# Altium schematic symbol library ARTIK-10.SchLib: 1 symbol
Pins are listed as number, name and electrical type; pins without a type are passive.

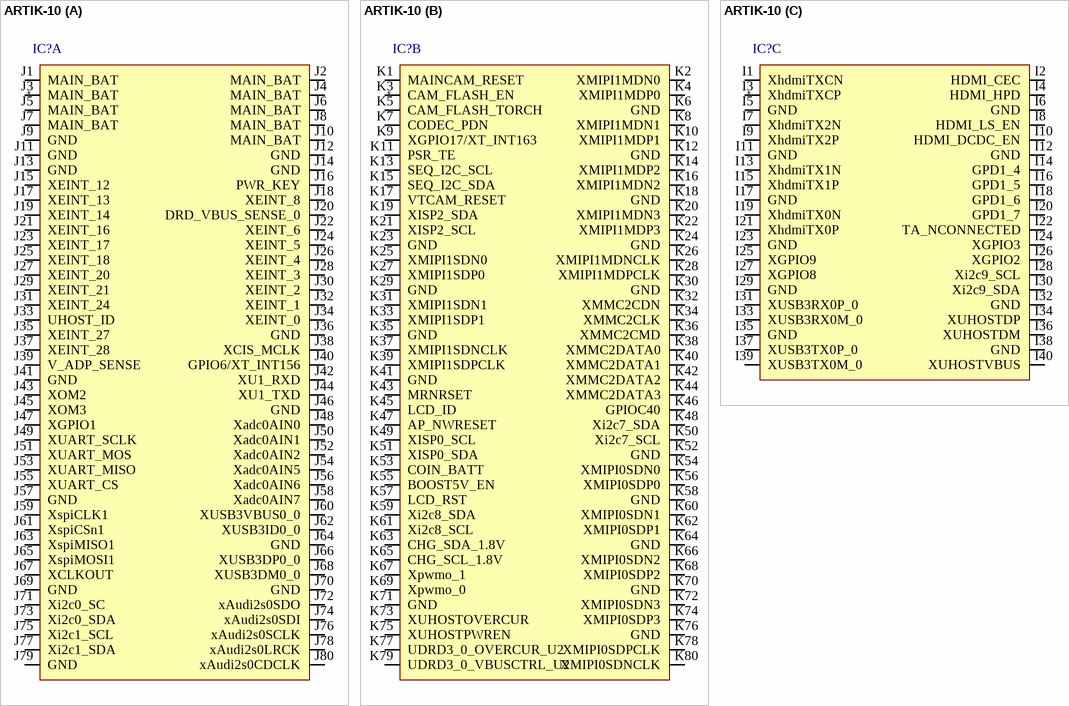
[diagram p0: symbol ARTIK-10]

## ARTIK-10
designator IC?
ID: ARTIK-10
footprint ARTIK-10
part A pins: J1 MAIN_BAT, J2 MAIN_BAT, J3 MAIN_BAT, J4 MAIN_BAT, J5 MAIN_BAT, J6 MAIN_BAT, J7 MAIN_BAT, J8 MAIN_BAT, J9 GND, J10 MAIN_BAT, J11 GND, J12 GND, J13 GND, J14 GND, J15 XEINT_12, J16 PWR_KEY, J17 XEINT_13, J18 XEINT_8, J19 XEINT_14, J20 DRD_VBUS_SENSE_0, J21 XEINT_16, J22 XEINT_6, J23 XEINT_17, J24 XEINT_5, J25 XEINT_18, J26 XEINT_4, J27 XEINT_20, J28 XEINT_3, J29 XEINT_21, J30 XEINT_2, J31 XEINT_24, J32 XEINT_1, J33 UHOST_ID, J34 XEINT_0, J35 XEINT_27, J36 GND, J37 XEINT_28, J38 XCIS_MCLK, J39 V_ADP_SENSE, J40 GPIO6/XT_INT156, J41 GND, J42 XU1_RXD, J43 XOM2, J44 XU1_TXD, J45 XOM3, J46 GND, J47 XGPIO1, J48 Xadc0AIN0, J49 XUART_SCLK, J50 Xadc0AIN1, J51 XUART_MOS, J52 Xadc0AIN2, J53 XUART_MISO, J54 Xadc0AIN5, J55 XUART_CS, J56 Xadc0AIN6, J57 GND, J58 Xadc0AIN7, J59 XspiCLK1, J60 XUSB3VBUS0_0, J61 XspiCSn1, J62 XUSB3ID0_0, J63 XspiMISO1, J64 GND, J65 XspiMOSI1, J66 XUSB3DP0_0, J67 XCLKOUT, J68 XUSB3DM0_0, J69 GND, J70 GND, J71 Xi2c0_SC, J72 xAudi2s0SDO, J73 Xi2c0_SDA, J74 xAudi2s0SDI, J75 Xi2c1_SCL, J76 xAudi2s0SCLK, J77 Xi2c1_SDA, J78 xAudi2s0LRCK, J79 GND, J80 xAudi2s0CDCLK
part B pins: K1 MAINCAM_RESET, K2 XMIPI1MDN0, K3 CAM_FLASH_EN, K4 XMIPI1MDP0, K5 CAM_FLASH_TORCH, K6 GND, K7 CODEC_PDN, K8 XMIPI1MDN1, K9 XGPIO17/XT_INT163, K10 XMIPI1MDP1, K11 PSR_TE, K12 GND, K13 SEQ_I2C_SCL, K14 XMIPI1MDP2, K15 SEQ_I2C_SDA, K16 XMIPI1MDN2, K17 VTCAM_RESET, K18 GND, K19 XISP2_SDA, K20 XMIPI1MDN3, K21 XISP2_SCL, K22 XMIPI1MDP3, K23 GND, K24 GND, K25 XMIPI1SDN0, K26 XMIPI1MDNCLK, K27 XMIPI1SDP0, K28 XMIPI1MDPCLK, K29 GND, K30 GND, K31 XMIPI1SDN1, K32 XMMC2CDN, K33 XMIPI1SDP1, K34 XMMC2CLK, K35 GND, K36 XMMC2CMD, K37 XMIPI1SDNCLK, K38 XMMC2DATA0, K39 XMIPI1SDPCLK, K40 XMMC2DATA1, K41 GND, K42 XMMC2DATA2, K43 MRNRSET, K44 XMMC2DATA3, K45 LCD_ID, K46 GPIOC40, K47 AP_NWRESET, K48 Xi2c7_SDA, K49 XISP0_SCL  , K50 Xi2c7_SCL, K51 XISP0_SDA, K52 GND, K53 COIN_BATT, K54 XMIPI0SDN0, K55 BOOST5V_EN, K56 XMIPI0SDP0, K57 LCD_RST, K58 GND, K59 Xi2c8_SDA, K60 XMIPI0SDN1, K61 Xi2c8_SCL, K62 XMIPI0SDP1, K63 CHG_SDA_1.8V, K64 GND, K65 CHG_SCL_1.8V, K66 XMIPI0SDN2, K67 Xpwmo_1, K68 XMIPI0SDP2, K69 Xpwmo_0, K70 GND, K71 GND, K72 XMIPI0SDN3, K73 XUHOSTOVERCUR, K74 XMIPI0SDP3, K75 XUHOSTPWREN, K76 GND, K77 UDRD3_0_OVERCUR_U2, K78 XMIPI0SDPCLK, K79 UDRD3_0_VBUSCTRL_U2, K80 XMIPI0SDNCLK
part C pins: I1 XhdmiTXCN, I2 HDMI_CEC, I3 XhdmiTXCP, I4 HDMI_HPD, I5 GND, I6 GND, I7 XhdmiTX2N, I8 HDMI_LS_EN, I9 XhdmiTX2P, I10 HDMI_DCDC_EN, I11 GND, I12 GND, I13 XhdmiTX1N, I14 GPD1_4, I15 XhdmiTX1P, I16 GPD1_5, I17 GND, I18 GPD1_6, I19 XhdmiTX0N, I20 GPD1_7, I21 XhdmiTX0P, I22 TA_NCONNECTED, I23 GND, I24 XGPIO3, I25 XGPIO9, I26 XGPIO2, I27 XGPIO8, I28 Xi2c9_SCL, I29 GND, I30 Xi2c9_SDA, I31 XUSB3RX0P_0, I32 GND, I33 XUSB3RX0M_0, I34 XUHOSTDP, I35 GND, I36 XUHOSTDM, I37 XUSB3TX0P_0, I38 GND, I39 XUSB3TX0M_0, I40 XUHOSTVBUS